# Altium integrated library TI Data Converters Analog to Digital Converter.IntLib: 2197 symbols (part 81 of 168)
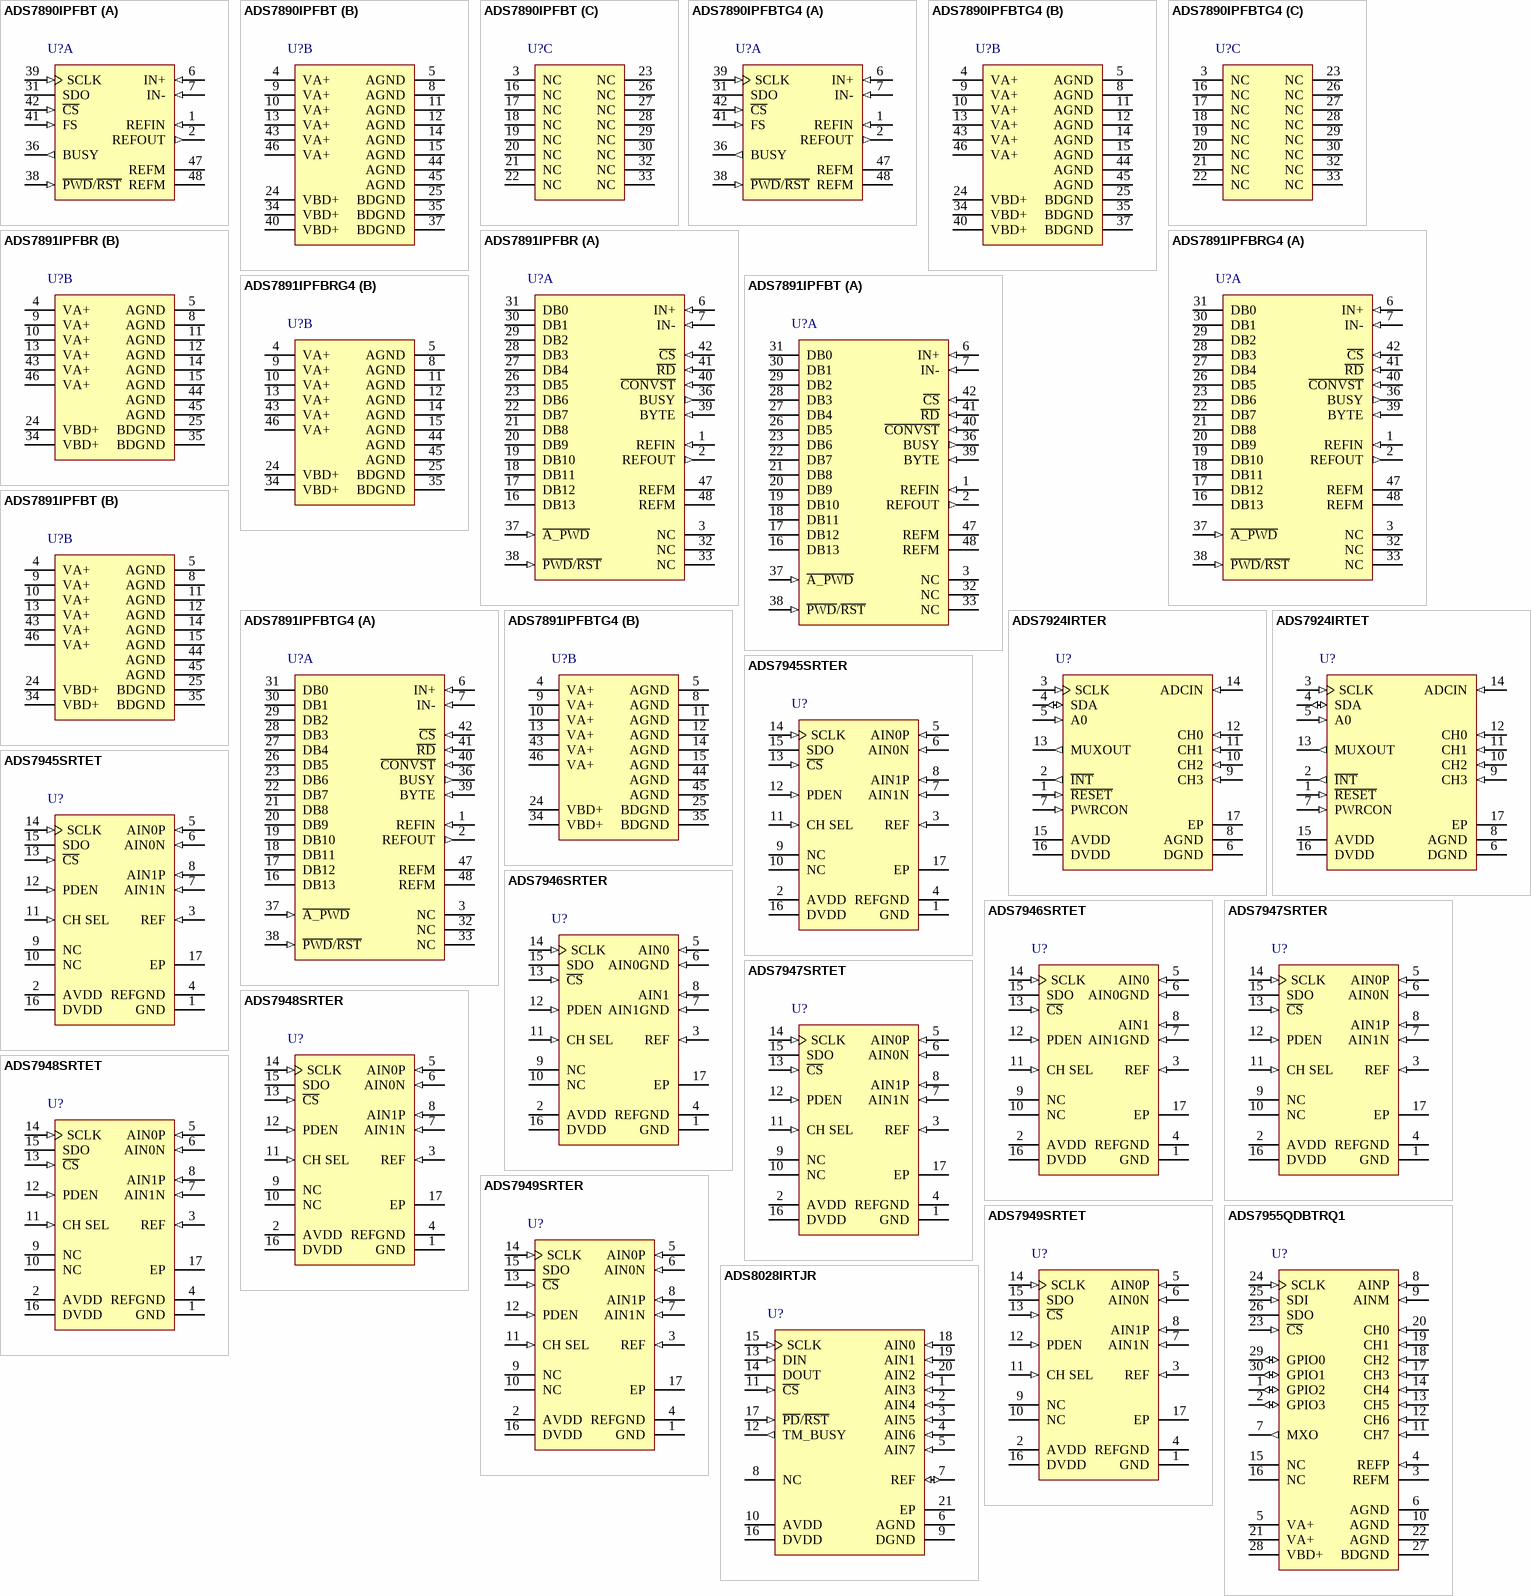
[diagram p206: symbols ADS7890IPFBT to ADS8028IRTJR]

## ADS7890IPFBTG4
designator U?
2.7 to 5.25 V Digital, 5 V Analog, 14-Bit, 1.25 MSPS, Serial ADC with Reference, -40 to 85 degC, 48-pin QFP (PFB48), Green (RoHS & no Sb/Br); Manufacturer: Texas Instruments; PartNumber: ADS7890IPFBTG4; # Input Channels: 1; Analog Voltage AV/DD(Max)(V): 5.25; Analog Voltage AV/DD(Min)(V): 4.75; Architecture: SAR; Digital Supply(Min)(V): 2.7; INL(Max)(+/-LSB): 1.5; Interface: Serial SPI; Resolution(Bits): 14; Sample Rate (max)(SPS): 1.25M; SFDR(dB): 97; SINAD(dB): 77; SNR(dB): 77.5; SubFamily: Precision ADC (<=10MSPS); DatasheetVersion: SLAS409; PackageVersion: 4073176/B, 10/1996; PackageReference: PFB48; PackageDescription: 48-Pin Plastic Flat Pack, Body 7 x 7 mm, Pitch 0.5 mm; Supplier 1: Digi-Key; Supplier Part Number 1: ADS7844ETR-ND; Supplier 2: Digi-Key; Supplier Part Number 2: ADS7844ECT-ND; Supplier 3: Newark; Supplier Part Number 3: 74C7177; Supplier 4: Mouser; Supplier Part Number 4: 595-ADS7844E/2K5; Digital Supply(Max)(V): 5.25; Eco-Plan: Green (RoHS & no Sb/Br); Mounting Technology: Surface Mount; Code_JEDEC: MS-026; ComponentLink1Description: Manufacturer URL; ComponentLink1URL: http://www.ti.com/; ComponentLink2Description: Datasheet; ComponentLink2URL: http://www.ti.com/general/docs/lit/getliterature.tsp?genericPartNumber=ADS7890&fileType=pdf; ComponentLink3Description: Package Specification; ComponentLink3URL: http://www.ti.com/lit/ml/mtqf019a/mtqf019a.pdf
footprint TI-PFB48_N (QFP, 48-Leads, Body 7x7mm, Pitch 0.5mm, IPC Medium Density)
footprint TI-PFB48_L (QFP, 48-Leads, Body 7x7mm, Pitch 0.5mm, IPC High Density)
footprint TI-PFB48_M (QFP, 48-Leads, Body 7x7mm, Pitch 0.5mm, IPC Low Density)
part A pins: 1 REFIN (in) "Reference (positive) input. Needs to be decoupled with REFM pin using 0.1-uF bypass capacitor and 1-uF storage capacitor.", 2 REFOUT (out) "Internal reference output. To be shorted to REFIN pin when internal reference is used. Do not connect to REFIN pin when external reference is used. Always needs to be decoupled with AGND using 0.1-uF bypass capacitor.", 6 IN+ (in) "Non inverting analog input channel", 7 IN- (in) "Inverting analog input channel", 31 SDO (hiz) "Serial data out. Data (excluding MSB) is latched out on the rising of SCLK with MSB first format. MSB is latched with the rising edge of FS or falling edge of CS depending on whether a DSP or SPI interface is used.", 36 BUSY (out) "Status output. This pin is high when a conversion is in progress.", 38 ~{PWD}/~{RST} (in) "Active low input, acts as device power down/device reset signal.", 39 SCLK (in) "Serial clock. The device needs a minimum of 16 clocks per frame. As described in the timing diagrams, it controls serial data out (first 14 clocks), powerup (from nap) on the 8th rising edge of SCLK, start of sample (track) (See Datasheet)", 41 FS (in) "Frame sync. The rising edge of FS starts a new sample and convert frame. The MSB from the previous conversion is latched out on the rising edge of FS. The rising edge of FS during an internal convert (see Figure 12) aborts (See Datasheet)", 42 ~{CS} (in) "Chip Select. Active low signal. The falling edge of C\S\ starts a new sample and convert frame. The MSB from the previous conversion is latched out on the falling edge of C\S\. This signal can be pulled high after the 16th (See Datasheet)", 47 REFM (power) "Reference ground. To be connected to analog ground plane.", 48 REFM (power) "Reference ground. To be connected to analog ground plane."
part B pins: 4 VA+ (power) "Analog power supplies. Refer to Table 2 for layout guidelines.", 5 AGND (power) "Analog ground pins. Need to be shorted to analog ground plane below the device.", 8 AGND (power) "Analog ground pins. Need to be shorted to analog ground plane below the device.", 9 VA+ (power) "Analog power supplies. Refer to Table 2 for layout guidelines.", 10 VA+ (power) "Analog power supplies. Refer to Table 2 for layout guidelines.", 11 AGND (power) "Analog ground pins. Need to be shorted to analog ground plane below the device.", 12 AGND (power) "Analog ground pins. Need to be shorted to analog ground plane below the device.", 13 VA+ (power) "Analog power supplies. Refer to Table 2 for layout guidelines.", 14 AGND (power) "Analog ground pins. Need to be shorted to analog ground plane below the device.", 15 AGND (power) "Analog ground pins. Need to be shorted to analog ground plane below the device.", 24 VBD+ (power) "Digital power supply for all digital inputs and outputs. Refer to Table 2 for layout guidelines.", 25 BDGND (power) "Digital ground for all digital inputs and outputs. Needs to be shorted to analog ground plane below the device.", 34 VBD+ (power) "Digital power supply for all digital inputs and outputs. Refer to Table 2 for layout guidelines.", 35 BDGND (power) "Digital ground for all digital inputs and outputs. Needs to be shorted to analog ground plane below the device.", 37 BDGND (power) "Digital ground for all digital inputs and outputs. Needs to be shorted to analog ground plane below the device.", 40 VBD+ (power) "Digital power supply for all digital inputs and outputs. Refer to Table 2 for layout guidelines.", 43 VA+ (power) "Analog power supplies. Refer to Table 2 for layout guidelines.", 44 AGND (power) "Analog ground pins. Need to be shorted to analog ground plane below the device.", 45 AGND (power) "Analog ground pins. Need to be shorted to analog ground plane below the device.", 46 VA+ (power) "Analog power supplies. Refer to Table 2 for layout guidelines."
part C pins: 3 NC "No connection pins.", 16 NC "No connection pins.", 17 NC "No connection pins.", 18 NC "No connection pins.", 19 NC "No connection pins.", 20 NC "No connection pins.", 21 NC "No connection pins.", 22 NC "No connection pins.", 23 NC "No connection pins.", 26 NC "No connection pins.", 27 NC "No connection pins.", 28 NC "No connection pins.", 29 NC "No connection pins.", 30 NC "No connection pins.", 32 NC "No connection pins.", 33 NC "No connection pins."

## ADS7891IPFBR
designator U?
2.7 to 5.25 V Digital, 5 V Analog, 14-Bit, 3 MSPS, Parallel ADC with Reference, -40 to 85 degC, 48-pin QFP (PFB48), Green (RoHS & no Sb/Br); Manufacturer: Texas Instruments; PartNumber: ADS7891IPFBR; # Input Channels: 1; Analog Voltage AV/DD(Max)(V): 5.25; Analog Voltage AV/DD(Min)(V): 4.75; Architecture: SAR; Digital Supply(Min)(V): 2.7; INL(Max)(+/-LSB): 1.5; Interface: Parallel CMOS; Resolution(Bits): 14; Sample Rate (max)(SPS): 3M; SFDR(dB): 90; SINAD(dB): 77; SNR(dB): 78; SubFamily: Precision ADC (<=10MSPS); DatasheetVersion: SLAS410; PackageVersion: 4073176/B, 10/1996; PackageReference: PFB48; PackageDescription: 48-Pin Plastic Flat Pack, Body 7 x 7 mm, Pitch 0.5 mm; Supplier 1: Digi-Key; Supplier Part Number 1: ADS7844E/2K5G4-ND; Supplier 2: Newark; Supplier Part Number 2: 24K4046; Supplier 3: Mouser; Supplier Part Number 3: 595-ADS7844E/2K5G4; Digital Supply(Max)(V): 5.25; Eco-Plan: Green (RoHS & no Sb/Br); Mounting Technology: Surface Mount; Code_JEDEC: MS-026; ComponentLink1Description: Manufacturer URL; ComponentLink1URL: http://www.ti.com/; ComponentLink2Description: Datasheet; ComponentLink2URL: http://www.ti.com/general/docs/lit/getliterature.tsp?genericPartNumber=ADS7891&fileType=pdf; ComponentLink3Description: Package Specification; ComponentLink3URL: http://www.ti.com/lit/ml/mtqf019a/mtqf019a.pdf
footprint TI-PFB48_N (QFP, 48-Leads, Body 7x7mm, Pitch 0.5mm, IPC Medium Density)
footprint TI-PFB48_L (QFP, 48-Leads, Body 7x7mm, Pitch 0.5mm, IPC High Density)
footprint TI-PFB48_M (QFP, 48-Leads, Body 7x7mm, Pitch 0.5mm, IPC Low Density)
part A pins: 1 REFIN (in) "Reference (positive) input. Needs to be decoupled with REFM pin using 0.1-uF bypass capacitor and 1-uF storage capacitor.", 2 REFOUT (out) "Internal reference output. To be shorted to REFIN pin when internal reference is used. Do not connect to REFIN pin when external reference is used. Always needs to be decoupled with AGND using 0.1-uF bypass capacitor.", 3 NC "No connection pins.", 6 IN+ (in) "Non inverting analog input channel", 7 IN- (in) "Inverting analog input channel", 16 DB13 (hiz), 17 DB12 (hiz), 18 DB11 (hiz), 19 DB10 (hiz), 20 DB9 (hiz), 21 DB8 (hiz), 22 DB7 (hiz), 23 DB6 (hiz), 26 DB5 (hiz), 27 DB4 (hiz), 28 DB3 (hiz), 29 DB2 (hiz), 30 DB1 (hiz), 31 DB0 (hiz), 32 NC "No connection pins.", 33 NC "No connection pins.", 36 BUSY (out) "Status output. This pin is high when a conversion is in progress.", 37 ~{A_PWD} (in) "Nap mode enable, active low", 38 ~{PWD}/~{RST} (in) "Active low input, acts as device power down/device reset signal.", 39 BYTE (in) "Byte select input. Used for 8-bit bus reading. 0: No fold back. 1: Lower byte D[5:0] is folded back to high byte so D5 is available in D13 place.", 40 ~{CONVST} (in) "Conversion start. The rising edge starts the acquisition. The falling edge of this input ends the acquisition and starts the conversion. Refer to the timing diagrams for more details.", 41 ~{RD} (in) "Active low synchronization pulse for the parallel output. When C\S\ is low, this serves as the output enable and puts the previous conversion results on the bus.", 42 ~{CS} (in) "Chip Select. Active low signal enables chip operation like acquisition start, conversion start, bus release from 3-state. Refer to the timing diagrams for more details.", 47 REFM (power) "Reference ground. To be connected to analog ground plane.", 48 REFM (power) "Reference ground. To be connected to analog ground plane."
part B pins: 4 VA+ (power) "Analog power supplies. Refer to Table 3 for layout guidelines.", 5 AGND (power) "Analog ground pins. Need to be shorted to analog ground plane below the device.", 8 AGND (power) "Analog ground pins. Need to be shorted to analog ground plane below the device.", 9 VA+ (power) "Analog power supplies. Refer to Table 3 for layout guidelines.", 10 VA+ (power) "Analog power supplies. Refer to Table 3 for layout guidelines.", 11 AGND (power) "Analog ground pins. Need to be shorted to analog ground plane below the device.", 12 AGND (power) "Analog ground pins. Need to be shorted to analog ground plane below the device.", 13 VA+ (power) "Analog power supplies. Refer to Table 3 for layout guidelines.", 14 AGND (power) "Analog ground pins. Need to be shorted to analog ground plane below the device.", 15 AGND (power) "Analog ground pins. Need to be shorted to analog ground plane below the device.", 24 VBD+ (power) "Digital power supply for all digital inputs and outputs. Refer to Table 3 for layout guidelines.", 25 BDGND (power) "Digital ground for all digital inputs and outputs. Needs to be shorted to analog ground plane below the device.", 34 VBD+ (power) "Digital power supply for all digital inputs and outputs. Refer to Table 3 for layout guidelines.", 35 BDGND (power) "Digital ground for all digital inputs and outputs. Needs to be shorted to analog ground plane below the device.", 43 VA+ (power) "Analog power supplies. Refer to Table 3 for layout guidelines.", 44 AGND (power) "Analog ground pins. Need to be shorted to analog ground plane below the device.", 45 AGND (power) "Analog ground pins. Need to be shorted to analog ground plane below the device.", 46 VA+ (power) "Analog power supplies. Refer to Table 3 for layout guidelines."

## ADS7891IPFBRG4
designator U?
2.7 to 5.25 V Digital, 5 V Analog, 14-Bit, 3 MSPS, Parallel ADC with Reference, -40 to 85 degC, 48-pin QFP (PFB48), Green (RoHS & no Sb/Br); Manufacturer: Texas Instruments; PartNumber: ADS7891IPFBRG4; # Input Channels: 1; Analog Voltage AV/DD(Max)(V): 5.25; Analog Voltage AV/DD(Min)(V): 4.75; Architecture: SAR; Digital Supply(Min)(V): 2.7; INL(Max)(+/-LSB): 1.5; Interface: Parallel CMOS; Resolution(Bits): 14; Sample Rate (max)(SPS): 3M; SFDR(dB): 90; SINAD(dB): 77; SNR(dB): 78; SubFamily: Precision ADC (<=10MSPS); DatasheetVersion: SLAS410; PackageVersion: 4073176/B, 10/1996; PackageReference: PFB48; PackageDescription: 48-Pin Plastic Flat Pack, Body 7 x 7 mm, Pitch 0.5 mm; Supplier 1: Digi-Key; Supplier Part Number 1: ADS7844EB-ND; Supplier 2: Newark; Supplier Part Number 2: 74C7178; Supplier 3: Mouser; Supplier Part Number 3: 595-ADS7844EB; Digital Supply(Max)(V): 5.25; Eco-Plan: Green (RoHS & no Sb/Br); Mounting Technology: Surface Mount; Code_JEDEC: MS-026; ComponentLink1Description: Manufacturer URL; ComponentLink1URL: http://www.ti.com/; ComponentLink2Description: Datasheet; ComponentLink2URL: http://www.ti.com/general/docs/lit/getliterature.tsp?genericPartNumber=ADS7891&fileType=pdf; ComponentLink3Description: Package Specification; ComponentLink3URL: http://www.ti.com/lit/ml/mtqf019a/mtqf019a.pdf
footprint TI-PFB48_N (QFP, 48-Leads, Body 7x7mm, Pitch 0.5mm, IPC Medium Density)
footprint TI-PFB48_L (QFP, 48-Leads, Body 7x7mm, Pitch 0.5mm, IPC High Density)
footprint TI-PFB48_M (QFP, 48-Leads, Body 7x7mm, Pitch 0.5mm, IPC Low Density)
part A pins: 1 REFIN (in) "Reference (positive) input. Needs to be decoupled with REFM pin using 0.1-uF bypass capacitor and 1-uF storage capacitor.", 2 REFOUT (out) "Internal reference output. To be shorted to REFIN pin when internal reference is used. Do not connect to REFIN pin when external reference is used. Always needs to be decoupled with AGND using 0.1-uF bypass capacitor.", 3 NC "No connection pins.", 6 IN+ (in) "Non inverting analog input channel", 7 IN- (in) "Inverting analog input channel", 16 DB13 (hiz), 17 DB12 (hiz), 18 DB11 (hiz), 19 DB10 (hiz), 20 DB9 (hiz), 21 DB8 (hiz), 22 DB7 (hiz), 23 DB6 (hiz), 26 DB5 (hiz), 27 DB4 (hiz), 28 DB3 (hiz), 29 DB2 (hiz), 30 DB1 (hiz), 31 DB0 (hiz), 32 NC "No connection pins.", 33 NC "No connection pins.", 36 BUSY (out) "Status output. This pin is high when a conversion is in progress.", 37 ~{A_PWD} (in) "Nap mode enable, active low", 38 ~{PWD}/~{RST} (in) "Active low input, acts as device power down/device reset signal.", 39 BYTE (in) "Byte select input. Used for 8-bit bus reading. 0: No fold back. 1: Lower byte D[5:0] is folded back to high byte so D5 is available in D13 place.", 40 ~{CONVST} (in) "Conversion start. The rising edge starts the acquisition. The falling edge of this input ends the acquisition and starts the conversion. Refer to the timing diagrams for more details.", 41 ~{RD} (in) "Active low synchronization pulse for the parallel output. When C\S\ is low, this serves as the output enable and puts the previous conversion results on the bus.", 42 ~{CS} (in) "Chip Select. Active low signal enables chip operation like acquisition start, conversion start, bus release from 3-state. Refer to the timing diagrams for more details.", 47 REFM (power) "Reference ground. To be connected to analog ground plane.", 48 REFM (power) "Reference ground. To be connected to analog ground plane."
part B pins: 4 VA+ (power) "Analog power supplies. Refer to Table 3 for layout guidelines.", 5 AGND (power) "Analog ground pins. Need to be shorted to analog ground plane below the device.", 8 AGND (power) "Analog ground pins. Need to be shorted to analog ground plane below the device.", 9 VA+ (power) "Analog power supplies. Refer to Table 3 for layout guidelines.", 10 VA+ (power) "Analog power supplies. Refer to Table 3 for layout guidelines.", 11 AGND (power) "Analog ground pins. Need to be shorted to analog ground plane below the device.", 12 AGND (power) "Analog ground pins. Need to be shorted to analog ground plane below the device.", 13 VA+ (power) "Analog power supplies. Refer to Table 3 for layout guidelines.", 14 AGND (power) "Analog ground pins. Need to be shorted to analog ground plane below the device.", 15 AGND (power) "Analog ground pins. Need to be shorted to analog ground plane below the device.", 24 VBD+ (power) "Digital power supply for all digital inputs and outputs. Refer to Table 3 for layout guidelines.", 25 BDGND (power) "Digital ground for all digital inputs and outputs. Needs to be shorted to analog ground plane below the device.", 34 VBD+ (power) "Digital power supply for all digital inputs and outputs. Refer to Table 3 for layout guidelines.", 35 BDGND (power) "Digital ground for all digital inputs and outputs. Needs to be shorted to analog ground plane below the device.", 43 VA+ (power) "Analog power supplies. Refer to Table 3 for layout guidelines.", 44 AGND (power) "Analog ground pins. Need to be shorted to analog ground plane below the device.", 45 AGND (power) "Analog ground pins. Need to be shorted to analog ground plane below the device.", 46 VA+ (power) "Analog power supplies. Refer to Table 3 for layout guidelines."

## ADS7891IPFBT
designator U?
2.7 to 5.25 V Digital, 5 V Analog, 14-Bit, 3 MSPS, Parallel ADC with Reference, -40 to 85 degC, 48-pin QFP (PFB48), Green (RoHS & no Sb/Br); Manufacturer: Texas Instruments; PartNumber: ADS7891IPFBT; # Input Channels: 1; Analog Voltage AV/DD(Max)(V): 5.25; Analog Voltage AV/DD(Min)(V): 4.75; Architecture: SAR; Digital Supply(Min)(V): 2.7; INL(Max)(+/-LSB): 1.5; Interface: Parallel CMOS; Resolution(Bits): 14; Sample Rate (max)(SPS): 3M; SFDR(dB): 90; SINAD(dB): 77; SNR(dB): 78; SubFamily: Precision ADC (<=10MSPS); DatasheetVersion: SLAS410; PackageVersion: 4073176/B, 10/1996; PackageReference: PFB48; PackageDescription: 48-Pin Plastic Flat Pack, Body 7 x 7 mm, Pitch 0.5 mm; Supplier 1: Digi-Key; Supplier Part Number 1: ADS7844EBTR-ND; Supplier 2: Digi-Key; Supplier Part Number 2: ADS7844EBCT-ND; Supplier 3: Newark; Supplier Part Number 3: 74C7179; Supplier 4: Mouser; Supplier Part Number 4: 595-ADS7844EB/2K5; Digital Supply(Max)(V): 5.25; Eco-Plan: Green (RoHS & no Sb/Br); Mounting Technology: Surface Mount; Code_JEDEC: MS-026; ComponentLink1Description: Manufacturer URL; ComponentLink1URL: http://www.ti.com/; ComponentLink2Description: Datasheet; ComponentLink2URL: http://www.ti.com/general/docs/lit/getliterature.tsp?genericPartNumber=ADS7891&fileType=pdf; ComponentLink3Description: Package Specification; ComponentLink3URL: http://www.ti.com/lit/ml/mtqf019a/mtqf019a.pdf
footprint TI-PFB48_N (QFP, 48-Leads, Body 7x7mm, Pitch 0.5mm, IPC Medium Density)
footprint TI-PFB48_L (QFP, 48-Leads, Body 7x7mm, Pitch 0.5mm, IPC High Density)
footprint TI-PFB48_M (QFP, 48-Leads, Body 7x7mm, Pitch 0.5mm, IPC Low Density)
part A pins: 1 REFIN (in) "Reference (positive) input. Needs to be decoupled with REFM pin using 0.1-uF bypass capacitor and 1-uF storage capacitor.", 2 REFOUT (out) "Internal reference output. To be shorted to REFIN pin when internal reference is used. Do not connect to REFIN pin when external reference is used. Always needs to be decoupled with AGND using 0.1-uF bypass capacitor.", 3 NC "No connection pins.", 6 IN+ (in) "Non inverting analog input channel", 7 IN- (in) "Inverting analog input channel", 16 DB13 (hiz), 17 DB12 (hiz), 18 DB11 (hiz), 19 DB10 (hiz), 20 DB9 (hiz), 21 DB8 (hiz), 22 DB7 (hiz), 23 DB6 (hiz), 26 DB5 (hiz), 27 DB4 (hiz), 28 DB3 (hiz), 29 DB2 (hiz), 30 DB1 (hiz), 31 DB0 (hiz), 32 NC "No connection pins.", 33 NC "No connection pins.", 36 BUSY (out) "Status output. This pin is high when a conversion is in progress.", 37 ~{A_PWD} (in) "Nap mode enable, active low", 38 ~{PWD}/~{RST} (in) "Active low input, acts as device power down/device reset signal.", 39 BYTE (in) "Byte select input. Used for 8-bit bus reading. 0: No fold back. 1: Lower byte D[5:0] is folded back to high byte so D5 is available in D13 place.", 40 ~{CONVST} (in) "Conversion start. The rising edge starts the acquisition. The falling edge of this input ends the acquisition and starts the conversion. Refer to the timing diagrams for more details.", 41 ~{RD} (in) "Active low synchronization pulse for the parallel output. When C\S\ is low, this serves as the output enable and puts the previous conversion results on the bus.", 42 ~{CS} (in) "Chip Select. Active low signal enables chip operation like acquisition start, conversion start, bus release from 3-state. Refer to the timing diagrams for more details.", 47 REFM (power) "Reference ground. To be connected to analog ground plane.", 48 REFM (power) "Reference ground. To be connected to analog ground plane."
part B pins: 4 VA+ (power) "Analog power supplies. Refer to Table 3 for layout guidelines.", 5 AGND (power) "Analog ground pins. Need to be shorted to analog ground plane below the device.", 8 AGND (power) "Analog ground pins. Need to be shorted to analog ground plane below the device.", 9 VA+ (power) "Analog power supplies. Refer to Table 3 for layout guidelines.", 10 VA+ (power) "Analog power supplies. Refer to Table 3 for layout guidelines.", 11 AGND (power) "Analog ground pins. Need to be shorted to analog ground plane below the device.", 12 AGND (power) "Analog ground pins. Need to be shorted to analog ground plane below the device.", 13 VA+ (power) "Analog power supplies. Refer to Table 3 for layout guidelines.", 14 AGND (power) "Analog ground pins. Need to be shorted to analog ground plane below the device.", 15 AGND (power) "Analog ground pins. Need to be shorted to analog ground plane below the device.", 24 VBD+ (power) "Digital power supply for all digital inputs and outputs. Refer to Table 3 for layout guidelines.", 25 BDGND (power) "Digital ground for all digital inputs and outputs. Needs to be shorted to analog ground plane below the device.", 34 VBD+ (power) "Digital power supply for all digital inputs and outputs. Refer to Table 3 for layout guidelines.", 35 BDGND (power) "Digital ground for all digital inputs and outputs. Needs to be shorted to analog ground plane below the device.", 43 VA+ (power) "Analog power supplies. Refer to Table 3 for layout guidelines.", 44 AGND (power) "Analog ground pins. Need to be shorted to analog ground plane below the device.", 45 AGND (power) "Analog ground pins. Need to be shorted to analog ground plane below the device.", 46 VA+ (power) "Analog power supplies. Refer to Table 3 for layout guidelines."

## ADS7891IPFBTG4
designator U?
2.7 to 5.25 V Digital, 5 V Analog, 14-Bit, 3 MSPS, Parallel ADC with Reference, -40 to 85 degC, 48-pin QFP (PFB48), Green (RoHS & no Sb/Br); Manufacturer: Texas Instruments; PartNumber: ADS7891IPFBTG4; # Input Channels: 1; Analog Voltage AV/DD(Max)(V): 5.25; Analog Voltage AV/DD(Min)(V): 4.75; Architecture: SAR; Digital Supply(Min)(V): 2.7; INL(Max)(+/-LSB): 1.5; Interface: Parallel CMOS; Resolution(Bits): 14; Sample Rate (max)(SPS): 3M; SFDR(dB): 90; SINAD(dB): 77; SNR(dB): 78; SubFamily: Precision ADC (<=10MSPS); DatasheetVersion: SLAS410; PackageVersion: 4073176/B, 10/1996; PackageReference: PFB48; PackageDescription: 48-Pin Plastic Flat Pack, Body 7 x 7 mm, Pitch 0.5 mm; Supplier 1: Digi-Key; Supplier Part Number 1: ADS7844EB/2K5G4-ND; Supplier 2: Mouser; Supplier Part Number 2: 595-ADS7844EB/2K5G4; Digital Supply(Max)(V): 5.25; Eco-Plan: Green (RoHS & no Sb/Br); Mounting Technology: Surface Mount; Code_JEDEC: MS-026; ComponentLink1Description: Manufacturer URL; ComponentLink1URL: http://www.ti.com/; ComponentLink2Description: Datasheet; ComponentLink2URL: http://www.ti.com/general/docs/lit/getliterature.tsp?genericPartNumber=ADS7891&fileType=pdf; ComponentLink3Description: Package Specification; ComponentLink3URL: http://www.ti.com/lit/ml/mtqf019a/mtqf019a.pdf
footprint TI-PFB48_N (QFP, 48-Leads, Body 7x7mm, Pitch 0.5mm, IPC Medium Density)
footprint TI-PFB48_L (QFP, 48-Leads, Body 7x7mm, Pitch 0.5mm, IPC High Density)
footprint TI-PFB48_M (QFP, 48-Leads, Body 7x7mm, Pitch 0.5mm, IPC Low Density)
part A pins: 1 REFIN (in) "Reference (positive) input. Needs to be decoupled with REFM pin using 0.1-uF bypass capacitor and 1-uF storage capacitor.", 2 REFOUT (out) "Internal reference output. To be shorted to REFIN pin when internal reference is used. Do not connect to REFIN pin when external reference is used. Always needs to be decoupled with AGND using 0.1-uF bypass capacitor.", 3 NC "No connection pins.", 6 IN+ (in) "Non inverting analog input channel", 7 IN- (in) "Inverting analog input channel", 16 DB13 (hiz), 17 DB12 (hiz), 18 DB11 (hiz), 19 DB10 (hiz), 20 DB9 (hiz), 21 DB8 (hiz), 22 DB7 (hiz), 23 DB6 (hiz), 26 DB5 (hiz), 27 DB4 (hiz), 28 DB3 (hiz), 29 DB2 (hiz), 30 DB1 (hiz), 31 DB0 (hiz), 32 NC "No connection pins.", 33 NC "No connection pins.", 36 BUSY (out) "Status output. This pin is high when a conversion is in progress.", 37 ~{A_PWD} (in) "Nap mode enable, active low", 38 ~{PWD}/~{RST} (in) "Active low input, acts as device power down/device reset signal.", 39 BYTE (in) "Byte select input. Used for 8-bit bus reading. 0: No fold back. 1: Lower byte D[5:0] is folded back to high byte so D5 is available in D13 place.", 40 ~{CONVST} (in) "Conversion start. The rising edge starts the acquisition. The falling edge of this input ends the acquisition and starts the conversion. Refer to the timing diagrams for more details.", 41 ~{RD} (in) "Active low synchronization pulse for the parallel output. When C\S\ is low, this serves as the output enable and puts the previous conversion results on the bus.", 42 ~{CS} (in) "Chip Select. Active low signal enables chip operation like acquisition start, conversion start, bus release from 3-state. Refer to the timing diagrams for more details.", 47 REFM (power) "Reference ground. To be connected to analog ground plane.", 48 REFM (power) "Reference ground. To be connected to analog ground plane."
part B pins: 4 VA+ (power) "Analog power supplies. Refer to Table 3 for layout guidelines.", 5 AGND (power) "Analog ground pins. Need to be shorted to analog ground plane below the device.", 8 AGND (power) "Analog ground pins. Need to be shorted to analog ground plane below the device.", 9 VA+ (power) "Analog power supplies. Refer to Table 3 for layout guidelines.", 10 VA+ (power) "Analog power supplies. Refer to Table 3 for layout guidelines.", 11 AGND (power) "Analog ground pins. Need to be shorted to analog ground plane below the device.", 12 AGND (power) "Analog ground pins. Need to be shorted to analog ground plane below the device.", 13 VA+ (power) "Analog power supplies. Refer to Table 3 for layout guidelines.", 14 AGND (power) "Analog ground pins. Need to be shorted to analog ground plane below the device.", 15 AGND (power) "Analog ground pins. Need to be shorted to analog ground plane below the device.", 24 VBD+ (power) "Digital power supply for all digital inputs and outputs. Refer to Table 3 for layout guidelines.", 25 BDGND (power) "Digital ground for all digital inputs and outputs. Needs to be shorted to analog ground plane below the device.", 34 VBD+ (power) "Digital power supply for all digital inputs and outputs. Refer to Table 3 for layout guidelines.", 35 BDGND (power) "Digital ground for all digital inputs and outputs. Needs to be shorted to analog ground plane below the device.", 43 VA+ (power) "Analog power supplies. Refer to Table 3 for layout guidelines.", 44 AGND (power) "Analog ground pins. Need to be shorted to analog ground plane below the device.", 45 AGND (power) "Analog ground pins. Need to be shorted to analog ground plane below the device.", 46 VA+ (power) "Analog power supplies. Refer to Table 3 for layout guidelines."

## ADS7924IRTER
designator U?
12-Bit, 4-Channel Mux Input SAR ADC with Intelligent System Power Control, -40 to 85 degC, 16-pin QFN (RTE16), Green (RoHS & no Sb/Br); Manufacturer: Texas Instruments; PartNumber: ADS7924IRTER; # Input Channels: 4; Analog Voltage AV/DD(Max)(V): 5.5; Analog Voltage AV/DD(Min)(V): 2.2; Digital Supply(Min)(V): 1.65; INL(Max)(+/-LSB): 1.5; Interface: Serial I2C; Resolution(Bits): 12; Sample Rate (max)(SPS): 100k; SubFamily: Precision ADC (<=10MSPS); DatasheetVersion: SBAS482A; PackageVersion: 4205254/D, 01/2011; PackageReference: RTE16-1700X1700TP; PackageDescription: 16-Pin Plastic Flat Pack, Body 3 x 3 mm, Pitch 0.5 mm; Supplier 1: Digi-Key; Supplier Part Number 1: ADS7844EBG4-ND; Supplier 2: Farnell; Supplier Part Number 2: 1234867; Supplier 3: Newark; Supplier Part Number 3: 12M8286; Supplier 4: Mouser; Supplier Part Number 4: 595-ADS7844EBG4; Architecture: SAR; Digital Supply(Max)(V): 5.5; Eco-Plan: Green (RoHS & no Sb/Br); Mounting Technology: Surface Mount; Code_JEDEC: MO-220; ComponentLink1Description: Manufacturer URL; ComponentLink1URL: http://www.ti.com/; ComponentLink2Description: Datasheet; ComponentLink2URL: http://www.ti.com/general/docs/lit/getliterature.tsp?genericPartNumber=ADS7924&fileType=pdf; ComponentLink3Description: Package Specification; ComponentLink3URL: http://www.ti.com/litv/pdf/mpqf149c
footprint TI-RTE16-1700X1700TP_V (QFN, 16-Leads, Body 3x3mm, Pitch 0.5mm, Thermal Pad 1.7x1.7mm)
pins: 1 ~{RESET} (in) "External reset, active low", 2 ~{INT} (out) "Interrupt pin, active low; generated when input voltage is beyond programmed threshold", 3 SCLK (in) "Serial clock input", 4 SDA (io) "Serial data", 5 A0 (in) "I2C address selection", 6 DGND (power) "Digital ground", 7 PWRCON (in) "Power control pin to control shutdown/power-up of external op amp", 8 AGND (power) "Analog ground", 9 CH3 (in) "Input channel 3", 10 CH2 (in) "Input channel 2", 11 CH1 (in) "Input channel 1", 12 CH0 (in) "Input channel 0", 13 MUXOUT (out) "Multiplexer output", 14 ADCIN (in) "ADC input", 15 AVDD (power) "Analog supply", 16 DVDD (power) "Digital supply", 17 EP (power) "Connect to AGND."

## ADS7924IRTET
designator U?
12-Bit, 4-Channel Mux Input SAR ADC with Intelligent System Power Control, -40 to 85 degC, 16-pin QFN (RTE16), Green (RoHS & no Sb/Br); Manufacturer: Texas Instruments; PartNumber: ADS7924IRTET; # Input Channels: 4; Analog Voltage AV/DD(Max)(V): 5.5; Analog Voltage AV/DD(Min)(V): 2.2; Digital Supply(Min)(V): 1.65; INL(Max)(+/-LSB): 1.5; Interface: Serial I2C; Resolution(Bits): 12; Sample Rate (max)(SPS): 100k; SubFamily: Precision ADC (<=10MSPS); DatasheetVersion: SBAS482A; PackageVersion: 4205254/D, 01/2011; PackageReference: RTE16-1700X1700TP; PackageDescription: 16-Pin Plastic Flat Pack, Body 3 x 3 mm, Pitch 0.5 mm; Supplier 1: Digi-Key; Supplier Part Number 1: ADS7844EG4-ND; Supplier 2: Farnell; Supplier Part Number 2: 1214383; Supplier 3: Newark; Supplier Part Number 3: 96K6240; Supplier 4: Newark; Supplier Part Number 4: 66K0596; Supplier 5: Mouser; Supplier Part Number 5: 595-ADS7844EG4; Architecture: SAR; Digital Supply(Max)(V): 5.5; Eco-Plan: Green (RoHS & no Sb/Br); Mounting Technology: Surface Mount; Code_JEDEC: MO-220; ComponentLink1Description: Manufacturer URL; ComponentLink1URL: http://www.ti.com/; ComponentLink2Description: Datasheet; ComponentLink2URL: http://www.ti.com/general/docs/lit/getliterature.tsp?genericPartNumber=ADS7924&fileType=pdf; ComponentLink3Description: Package Specification; ComponentLink3URL: http://www.ti.com/litv/pdf/mpqf149c
footprint TI-RTE16-1700X1700TP_V (QFN, 16-Leads, Body 3x3mm, Pitch 0.5mm, Thermal Pad 1.7x1.7mm)
pins: 1 ~{RESET} (in) "External reset, active low", 2 ~{INT} (out) "Interrupt pin, active low; generated when input voltage is beyond programmed threshold", 3 SCLK (in) "Serial clock input", 4 SDA (io) "Serial data", 5 A0 (in) "I2C address selection", 6 DGND (power) "Digital ground", 7 PWRCON (in) "Power control pin to control shutdown/power-up of external op amp", 8 AGND (power) "Analog ground", 9 CH3 (in) "Input channel 3", 10 CH2 (in) "Input channel 2", 11 CH1 (in) "Input channel 1", 12 CH0 (in) "Input channel 0", 13 MUXOUT (out) "Multiplexer output", 14 ADCIN (in) "ADC input", 15 AVDD (power) "Analog supply", 16 DVDD (power) "Digital supply", 17 EP (power) "Connect to AGND."

## ADS7945SRTER
designator U?
14-Bit, 2 MSPS, Dual-Channel, Unipolar, Differential, u-Power SAR ADC, -40 to 85 degC, 16-pin QFN (RTE16), Green (RoHS & no Sb/Br); Manufacturer: Texas Instruments; PartNumber: ADS7945SRTER; # Input Channels: 2; Analog Voltage AV/DD(Max)(V): 5.25; Analog Voltage AV/DD(Min)(V): 2.7; Digital Supply(Min)(V): 1.65; INL(Max)(+/-LSB): 1.5; Interface: Serial SPI; Resolution(Bits): 14; Sample Rate (max)(SPS): 2M; SFDR(dB): 94; SINAD(dB): 83.5; SNR(dB): 84; SubFamily: Precision ADC (<=10MSPS); DatasheetVersion: SBAS539B; PackageVersion: 4205254/D, 01/2011; PackageReference: RTE16-1700X1700TP; PackageDescription: 16-Pin Plastic Flat Pack, Body 3 x 3 mm, Pitch 0.5 mm; Supplier 1: Digi-Key; Supplier Part Number 1: ADS7844N-ND; Supplier 2: Newark; Supplier Part Number 2: 80K5559; Supplier 3: Mouser; Supplier Part Number 3: 595-ADS7844N; Architecture: SAR; Digital Supply(Max)(V): 5.25; Eco-Plan: Green (RoHS & no Sb/Br); Mounting Technology: Surface Mount; Code_JEDEC: MO-220; ComponentLink1Description: Manufacturer URL; ComponentLink1URL: http://www.ti.com/; ComponentLink2Description: Datasheet; ComponentLink2URL: http://www.ti.com/general/docs/lit/getliterature.tsp?genericPartNumber=ADS7945&fileType=pdf; ComponentLink3Description: Package Specification; ComponentLink3URL: http://www.ti.com/litv/pdf/mpqf149c
footprint TI-RTE16-1700X1700TP_V (QFN, 16-Leads, Body 3x3mm, Pitch 0.5mm, Thermal Pad 1.7x1.7mm)
pins: 1 GND (power) "Power supply ground; all analog and digital signals are referred with respect to this pin", 2 AVDD (power) "ADC power supply", 3 REF (in) "ADC positive reference input; decouple this pin with REFGND", 4 REFGND (power) "Reference return; short to analog ground plane", 5 AIN0P (in) "Positive analog input, channel 0", 6 AIN0N (in) "Negative analog input, channel 0", 7 AIN1N (in) "Negative analog input, channel 1", 8 AIN1P (in) "Positive analog input, channel 1", 9 NC "Not connected internally, it is recommended to externally short this pin to GND", 10 NC "Not connected internally, it is recommended to externally short this pin to GND", 11 CH SEL (in) "This pin selects the analog input channel. Low = Channel 0 High = Channel 1 It is recommended to change the channel within a window of one clock; from half a clock after the C\S\ falling edge. This change ensures the (See Datasheet)", 12 PDEN (in) "This pin enables a power-down feature if it is high at the C\S\ rising edge", 13 ~{CS} (in) "Chip select signal; active low", 14 SCLK (in) "Serial SPI clock", 15 SDO (hiz) "Serial data out", 16 DVDD (power) "Digital I/O supply", 17 EP

## ADS7945SRTET
designator U?
14-Bit, 2 MSPS, Dual-Channel, Unipolar, Differential, u-Power SAR ADC, -40 to 85 degC, 16-pin QFN (RTE16), Green (RoHS & no Sb/Br); Manufacturer: Texas Instruments; PartNumber: ADS7945SRTET; # Input Channels: 2; Analog Voltage AV/DD(Max)(V): 5.25; Analog Voltage AV/DD(Min)(V): 2.7; Digital Supply(Min)(V): 1.65; INL(Max)(+/-LSB): 1.5; Interface: Serial SPI; Resolution(Bits): 14; Sample Rate (max)(SPS): 2M; SFDR(dB): 94; SINAD(dB): 83.5; SNR(dB): 84; SubFamily: Precision ADC (<=10MSPS); DatasheetVersion: SBAS539B; PackageVersion: 4205254/D, 01/2011; PackageReference: RTE16-1700X1700TP; PackageDescription: 16-Pin Plastic Flat Pack, Body 3 x 3 mm, Pitch 0.5 mm; Supplier 1: Digi-Key; Supplier Part Number 1: 296-25902-2-ND; Supplier 2: Digi-Key; Supplier Part Number 2: 296-25902-1-ND; Supplier 3: Digi-Key; Supplier Part Number 3: 296-25902-6-ND; Supplier 4: Newark; Supplier Part Number 4: 74C7180; Supplier 5: Mouser; Supplier Part Number 5: 595-ADS7844N/1K; Architecture: SAR; Digital Supply(Max)(V): 5.25; Eco-Plan: Green (RoHS & no Sb/Br); Mounting Technology: Surface Mount; Code_JEDEC: MO-220; ComponentLink1Description: Manufacturer URL; ComponentLink1URL: http://www.ti.com/; ComponentLink2Description: Datasheet; ComponentLink2URL: http://www.ti.com/general/docs/lit/getliterature.tsp?genericPartNumber=ADS7945&fileType=pdf; ComponentLink3Description: Package Specification; ComponentLink3URL: http://www.ti.com/litv/pdf/mpqf149c
footprint TI-RTE16-1700X1700TP_V (QFN, 16-Leads, Body 3x3mm, Pitch 0.5mm, Thermal Pad 1.7x1.7mm)
pins: 1 GND (power) "Power supply ground; all analog and digital signals are referred with respect to this pin", 2 AVDD (power) "ADC power supply", 3 REF (in) "ADC positive reference input; decouple this pin with REFGND", 4 REFGND (power) "Reference return; short to analog ground plane", 5 AIN0P (in) "Positive analog input, channel 0", 6 AIN0N (in) "Negative analog input, channel 0", 7 AIN1N (in) "Negative analog input, channel 1", 8 AIN1P (in) "Positive analog input, channel 1", 9 NC "Not connected internally, it is recommended to externally short this pin to GND", 10 NC "Not connected internally, it is recommended to externally short this pin to GND", 11 CH SEL (in) "This pin selects the analog input channel. Low = Channel 0 High = Channel 1 It is recommended to change the channel within a window of one clock; from half a clock after the C\S\ falling edge. This change ensures the (See Datasheet)", 12 PDEN (in) "This pin enables a power-down feature if it is high at the C\S\ rising edge", 13 ~{CS} (in) "Chip select signal; active low", 14 SCLK (in) "Serial SPI clock", 15 SDO (hiz) "Serial data out", 16 DVDD (power) "Digital I/O supply", 17 EP

## ADS7946SRTER
designator U?
14-Bit, 2 MSPS, Dual-Channel, Unipolar, Pseudo-Differential, u-Power SAR ADC, -40 to 85 degC, 16-pin QFN (RTE16), Green (RoHS & no Sb/Br); Manufacturer: Texas Instruments; PartNumber: ADS7946SRTER; # Input Channels: 2; Analog Voltage AV/DD(Max)(V): 5.25; Analog Voltage AV/DD(Min)(V): 2.7; Digital Supply(Min)(V): 1.65; INL(Max)(+/-LSB): 2.5; Interface: Serial SPI; Resolution(Bits): 14; Sample Rate (max)(SPS): 2M; SFDR(dB): 86; SINAD(dB): 78.8; SNR(dB): 82; SubFamily: Precision ADC (<=10MSPS); DatasheetVersion: SBAS539B; PackageVersion: 4205254/D, 01/2011; PackageReference: RTE16-1700X1700TP; PackageDescription: 16-Pin Plastic Flat Pack, Body 3 x 3 mm, Pitch 0.5 mm; Supplier 1: Digi-Key; Supplier Part Number 1: ADS7844N/1KG4-ND; Supplier 2: Farnell; Supplier Part Number 2: 9324143; Supplier 3: Newark; Supplier Part Number 3: 37K8981; Supplier 4: Newark; Supplier Part Number 4: 24K4047; Supplier 5: Mouser; Supplier Part Number 5: 595-ADS7844N/1KG4; Architecture: SAR; Digital Supply(Max)(V): 5.25; Eco-Plan: Green (RoHS & no Sb/Br); Mounting Technology: Surface Mount; Code_JEDEC: MO-220; ComponentLink1Description: Manufacturer URL; ComponentLink1URL: http://www.ti.com/; ComponentLink2Description: Datasheet; ComponentLink2URL: http://www.ti.com/general/docs/lit/getliterature.tsp?genericPartNumber=ADS7946&fileType=pdf; ComponentLink3Description: Package Specification; ComponentLink3URL: http://www.ti.com/litv/pdf/mpqf149c
footprint TI-RTE16-1700X1700TP_V (QFN, 16-Leads, Body 3x3mm, Pitch 0.5mm, Thermal Pad 1.7x1.7mm)
pins: 1 GND (power) "Power supply ground; all analog and digital signals are referred with respect to this pin", 2 AVDD (power) "ADC power supply", 3 REF (in) "ADC positive reference input; decouple this pin with REFGND", 4 REFGND (power) "Reference return; short to analog ground plane", 5 AIN0 (in) "Positive analog input, channel 0", 6 AIN0GND (in) "Ground sense analog input, channel 0", 7 AIN1GND (in) "Ground sense analog input, channel 1", 8 AIN1 (in) "Positive analog input, channel 1", 9 NC "Not connected internally, it is recommended to externally short this pin to GND", 10 NC "Not connected internally, it is recommended to externally short this pin to GND", 11 CH SEL (in) "This pin selects the analog input channel. Low = Channel 0 High = Channel 1 It is recommended to change the channel within a window of one clock; from half a clock after the C\S\ falling edge. This change ensures the (See Datasheet)", 12 PDEN (in) "This pin enables a power-down feature if it is high at the C\S\ rising edge", 13 ~{CS} (in) "Chip select signal; active low", 14 SCLK (in) "Serial SPI clock", 15 SDO (hiz) "Serial data out", 16 DVDD (power) "Digital I/O supply", 17 EP

## ADS7946SRTET
designator U?
14-Bit, 2 MSPS, Dual-Channel, Unipolar, Pseudo-Differential, u-Power SAR ADC, -40 to 85 degC, 16-pin QFN (RTE16), Green (RoHS & no Sb/Br); Manufacturer: Texas Instruments; PartNumber: ADS7946SRTET; # Input Channels: 2; Analog Voltage AV/DD(Max)(V): 5.25; Analog Voltage AV/DD(Min)(V): 2.7; Digital Supply(Min)(V): 1.65; INL(Max)(+/-LSB): 2.5; Interface: Serial SPI; Resolution(Bits): 14; Sample Rate (max)(SPS): 2M; SFDR(dB): 86; SINAD(dB): 78.8; SNR(dB): 82; SubFamily: Precision ADC (<=10MSPS); DatasheetVersion: SBAS539B; PackageVersion: 4205254/D, 01/2011; PackageReference: RTE16-1700X1700TP; PackageDescription: 16-Pin Plastic Flat Pack, Body 3 x 3 mm, Pitch 0.5 mm; Supplier 1: Digi-Key; Supplier Part Number 1: ADS7844NB-ND; Supplier 2: Newark; Supplier Part Number 2: 74K3635; Supplier 3: Mouser; Supplier Part Number 3: 595-ADS7844NB; Architecture: SAR; Digital Supply(Max)(V): 5.25; Eco-Plan: Green (RoHS & no Sb/Br); Mounting Technology: Surface Mount; Code_JEDEC: MO-220; ComponentLink1Description: Manufacturer URL; ComponentLink1URL: http://www.ti.com/; ComponentLink2Description: Datasheet; ComponentLink2URL: http://www.ti.com/general/docs/lit/getliterature.tsp?genericPartNumber=ADS7946&fileType=pdf; ComponentLink3Description: Package Specification; ComponentLink3URL: http://www.ti.com/litv/pdf/mpqf149c
footprint TI-RTE16-1700X1700TP_V (QFN, 16-Leads, Body 3x3mm, Pitch 0.5mm, Thermal Pad 1.7x1.7mm)
pins: 1 GND (power) "Power supply ground; all analog and digital signals are referred with respect to this pin", 2 AVDD (power) "ADC power supply", 3 REF (in) "ADC positive reference input; decouple this pin with REFGND", 4 REFGND (power) "Reference return; short to analog ground plane", 5 AIN0 (in) "Positive analog input, channel 0", 6 AIN0GND (in) "Ground sense analog input, channel 0", 7 AIN1GND (in) "Ground sense analog input, channel 1", 8 AIN1 (in) "Positive analog input, channel 1", 9 NC "Not connected internally, it is recommended to externally short this pin to GND", 10 NC "Not connected internally, it is recommended to externally short this pin to GND", 11 CH SEL (in) "This pin selects the analog input channel. Low = Channel 0 High = Channel 1 It is recommended to change the channel within a window of one clock; from half a clock after the C\S\ falling edge. This change ensures the (See Datasheet)", 12 PDEN (in) "This pin enables a power-down feature if it is high at the C\S\ rising edge", 13 ~{CS} (in) "Chip select signal; active low", 14 SCLK (in) "Serial SPI clock", 15 SDO (hiz) "Serial data out", 16 DVDD (power) "Digital I/O supply", 17 EP

## ADS7947SRTER
designator U?
12-Bit, 2 MSPS, Dual Channel, Pseudo-Differential uPower Serial SAR ADC, -40 to 125 degC, 16-pin QFN (RTE16), Green (RoHS & no Sb/Br); Manufacturer: Texas Instruments; PartNumber: ADS7947SRTER; # Input Channels: 2; Analog Voltage AV/DD(Max)(V): 5.5; Analog Voltage AV/DD(Min)(V): 2.7; Digital Supply(Min)(V): 1.65; INL(Max)(+/-LSB): 1; Resolution(Bits): 12; Sample Rate (max)(SPS): 2M; SFDR(dB): 86; SINAD(dB): 72.75; SNR(dB): 73; SubFamily: Precision ADC (<=10MSPS); DatasheetVersion: SLAS708; PackageVersion: 4205254/D, 01/2011; PackageReference: RTE16-1700X1700TP; PackageDescription: 16-Pin Plastic Flat Pack, Body 3 x 3 mm, Pitch 0.5 mm; Supplier 1: Digi-Key; Supplier Part Number 1: ADS7844NB/1K-ND; Supplier 2: Mouser; Supplier Part Number 2: 595-ADS7844NB/1K; Architecture: SAR; Digital Supply(Max)(V): 5.5; Eco-Plan: Green (RoHS & no Sb/Br); Mounting Technology: Surface Mount; Code_JEDEC: MO-220; ComponentLink1Description: Manufacturer URL; ComponentLink1URL: http://www.ti.com/; ComponentLink2Description: Datasheet; ComponentLink2URL: http://www.ti.com/general/docs/lit/getliterature.tsp?genericPartNumber=ADS7947&fileType=pdf; ComponentLink3Description: Package Specification; ComponentLink3URL: http://www.ti.com/litv/pdf/mpqf149c
footprint TI-RTE16-1700X1700TP_V (QFN, 16-Leads, Body 3x3mm, Pitch 0.5mm, Thermal Pad 1.7x1.7mm)
pins: 1 GND (power) "Power supply ground; all analog and digital signals are referred with respect to this pin", 2 AVDD (power) "ADC power supply", 3 REF (in) "ADC positive reference input; decouple this pin with REFGND", 4 REFGND (power) "Reference return; short to analog ground plane", 5 AIN0P (in) "Positive analog input, channel 0", 6 AIN0N (in) "Negative analog input, channel 0", 7 AIN1N (in) "Negative analog input, channel 1", 8 AIN1P (in) "Positive analog input, channel 1", 9 NC "Not connected internally, it is recommended to externally short this pin to GND", 10 NC "Not connected internally, it is recommended to externally short this pin to GND", 11 CH SEL (in) "This pin selects the analog input channel. Low = Channel 0 High = Channel 1 It is recommended to change the channel within a window of one clock; from half a clock after the C\S\ falling edge. This change ensures the (See Datasheet)", 12 PDEN (in) "This pin enables a power-down feature if it is high at the C\S\ rising edge", 13 ~{CS} (in) "Chip select signal; active low", 14 SCLK (in) "Serial SPI clock", 15 SDO (hiz) "Serial data out", 16 DVDD (power) "Digital I/O supply", 17 EP

## ADS7947SRTET
designator U?
12-Bit, 2 MSPS, Dual Channel, Pseudo-Differential uPower Serial SAR ADC, -40 to 125 degC, 16-pin QFN (RTE16), Green (RoHS & no Sb/Br); Manufacturer: Texas Instruments; PartNumber: ADS7947SRTET; # Input Channels: 2; Analog Voltage AV/DD(Max)(V): 5.5; Analog Voltage AV/DD(Min)(V): 2.7; Digital Supply(Min)(V): 1.65; INL(Max)(+/-LSB): 1; Resolution(Bits): 12; Sample Rate (max)(SPS): 2M; SFDR(dB): 86; SINAD(dB): 72.75; SNR(dB): 73; SubFamily: Precision ADC (<=10MSPS); DatasheetVersion: SLAS708; PackageVersion: 4205254/D, 01/2011; PackageReference: RTE16-1700X1700TP; PackageDescription: 16-Pin Plastic Flat Pack, Body 3 x 3 mm, Pitch 0.5 mm; Supplier 1: Digi-Key; Supplier Part Number 1: ADS7844NB/1KG4-ND; Supplier 2: Mouser; Supplier Part Number 2: 595-ADS7844NB/1KG4; Architecture: SAR; Digital Supply(Max)(V): 5.5; Eco-Plan: Green (RoHS & no Sb/Br); Mounting Technology: Surface Mount; Code_JEDEC: MO-220; ComponentLink1Description: Manufacturer URL; ComponentLink1URL: http://www.ti.com/; ComponentLink2Description: Datasheet; ComponentLink2URL: http://www.ti.com/general/docs/lit/getliterature.tsp?genericPartNumber=ADS7947&fileType=pdf; ComponentLink3Description: Package Specification; ComponentLink3URL: http://www.ti.com/litv/pdf/mpqf149c
footprint TI-RTE16-1700X1700TP_V (QFN, 16-Leads, Body 3x3mm, Pitch 0.5mm, Thermal Pad 1.7x1.7mm)
pins: 1 GND (power) "Power supply ground; all analog and digital signals are referred with respect to this pin", 2 AVDD (power) "ADC power supply", 3 REF (in) "ADC positive reference input; decouple this pin with REFGND", 4 REFGND (power) "Reference return; short to analog ground plane", 5 AIN0P (in) "Positive analog input, channel 0", 6 AIN0N (in) "Negative analog input, channel 0", 7 AIN1N (in) "Negative analog input, channel 1", 8 AIN1P (in) "Positive analog input, channel 1", 9 NC "Not connected internally, it is recommended to externally short this pin to GND", 10 NC "Not connected internally, it is recommended to externally short this pin to GND", 11 CH SEL (in) "This pin selects the analog input channel. Low = Channel 0 High = Channel 1 It is recommended to change the channel within a window of one clock; from half a clock after the C\S\ falling edge. This change ensures the (See Datasheet)", 12 PDEN (in) "This pin enables a power-down feature if it is high at the C\S\ rising edge", 13 ~{CS} (in) "Chip select signal; active low", 14 SCLK (in) "Serial SPI clock", 15 SDO (hiz) "Serial data out", 16 DVDD (power) "Digital I/O supply", 17 EP

## ADS7948SRTER
designator U?
10-Bit, 2 MSPS, Dual Channel, Pseudo-Differential uPower Serial SAR ADC, -40 to 125 degC, 16-pin QFN (RTE16), Green (RoHS & no Sb/Br); Manufacturer: Texas Instruments; PartNumber: ADS7948SRTER; # Input Channels: 2; Analog Voltage AV/DD(Max)(V): 5.5; Analog Voltage AV/DD(Min)(V): 2.7; Digital Supply(Min)(V): 1.65; INL(Max)(+/-LSB): 0.5; Resolution(Bits): 10; Sample Rate (max)(SPS): 2M; SFDR(dB): 81; SINAD(dB): 61; SubFamily: Precision ADC (<=10MSPS); DatasheetVersion: SLAS708; PackageVersion: 4205254/D, 01/2011; PackageReference: RTE16-1700X1700TP; PackageDescription: 16-Pin Plastic Flat Pack, Body 3 x 3 mm, Pitch 0.5 mm; Supplier 1: Digi-Key; Supplier Part Number 1: ADS7844NBG4-ND; Supplier 2: Mouser; Supplier Part Number 2: 595-ADS7844NBG4; Architecture: SAR; Digital Supply(Max)(V): 5.5; Eco-Plan: Green (RoHS & no Sb/Br); Mounting Technology: Surface Mount; Code_JEDEC: MO-220; ComponentLink1Description: Manufacturer URL; ComponentLink1URL: http://www.ti.com/; ComponentLink2Description: Datasheet; ComponentLink2URL: http://www.ti.com/general/docs/lit/getliterature.tsp?genericPartNumber=ADS7948&fileType=pdf; ComponentLink3Description: Package Specification; ComponentLink3URL: http://www.ti.com/litv/pdf/mpqf149c
footprint TI-RTE16-1700X1700TP_V (QFN, 16-Leads, Body 3x3mm, Pitch 0.5mm, Thermal Pad 1.7x1.7mm)
pins: 1 GND (power) "Power supply ground; all analog and digital signals are referred with respect to this pin", 2 AVDD (power) "ADC power supply", 3 REF (in) "ADC positive reference input; decouple this pin with REFGND", 4 REFGND (power) "Reference return; short to analog ground plane", 5 AIN0P (in) "Positive analog input, channel 0", 6 AIN0N (in) "Negative analog input, channel 0. Note that the allowable signal swing on this pin is +/-0.2V; this pin can be grounded.", 7 AIN1N (in) "Negative analog input, channel 1. Note that the allowable signal swing on this pin is +/-0.2V; this pin can be grounded.", 8 AIN1P (in) "Positive analog input, channel 1", 9 NC "Not connected internally, it is recommended to externally short this pin to GND", 10 NC "Not connected internally, it is recommended to externally short this pin to GND", 11 CH SEL (in) "This pin selects the analog input channel. Low = channel 0, high = channel 1. It is recommended to change the channel within a window of one clock; from half a clock after the C\S\ falling edge. This change ensures the (See Datasheet)", 12 PDEN (in) "This pin enables a power-down feature if it is high at the C\S\ rising edge", 13 ~{CS} (in) "Chip select signal; active low", 14 SCLK (in) "Serial SPI clock", 15 SDO (hiz) "Serial data out", 16 DVDD (power) "Digital I/O supply", 17 EP "Exposed Pad"